# Altium footprint library openbook.PcbLib: 46 footprints (part 1 of 3)
Each footprint in its own frame and in the unit in brackets; x right, y up, seen from the top. Pads: shape width x height; smd on the part's side, far side on the other; paste and mask are expansions set on the pad; w line width, h text height; cw(c..) or ccw(c..) is an arc to the next point about the centre after c.
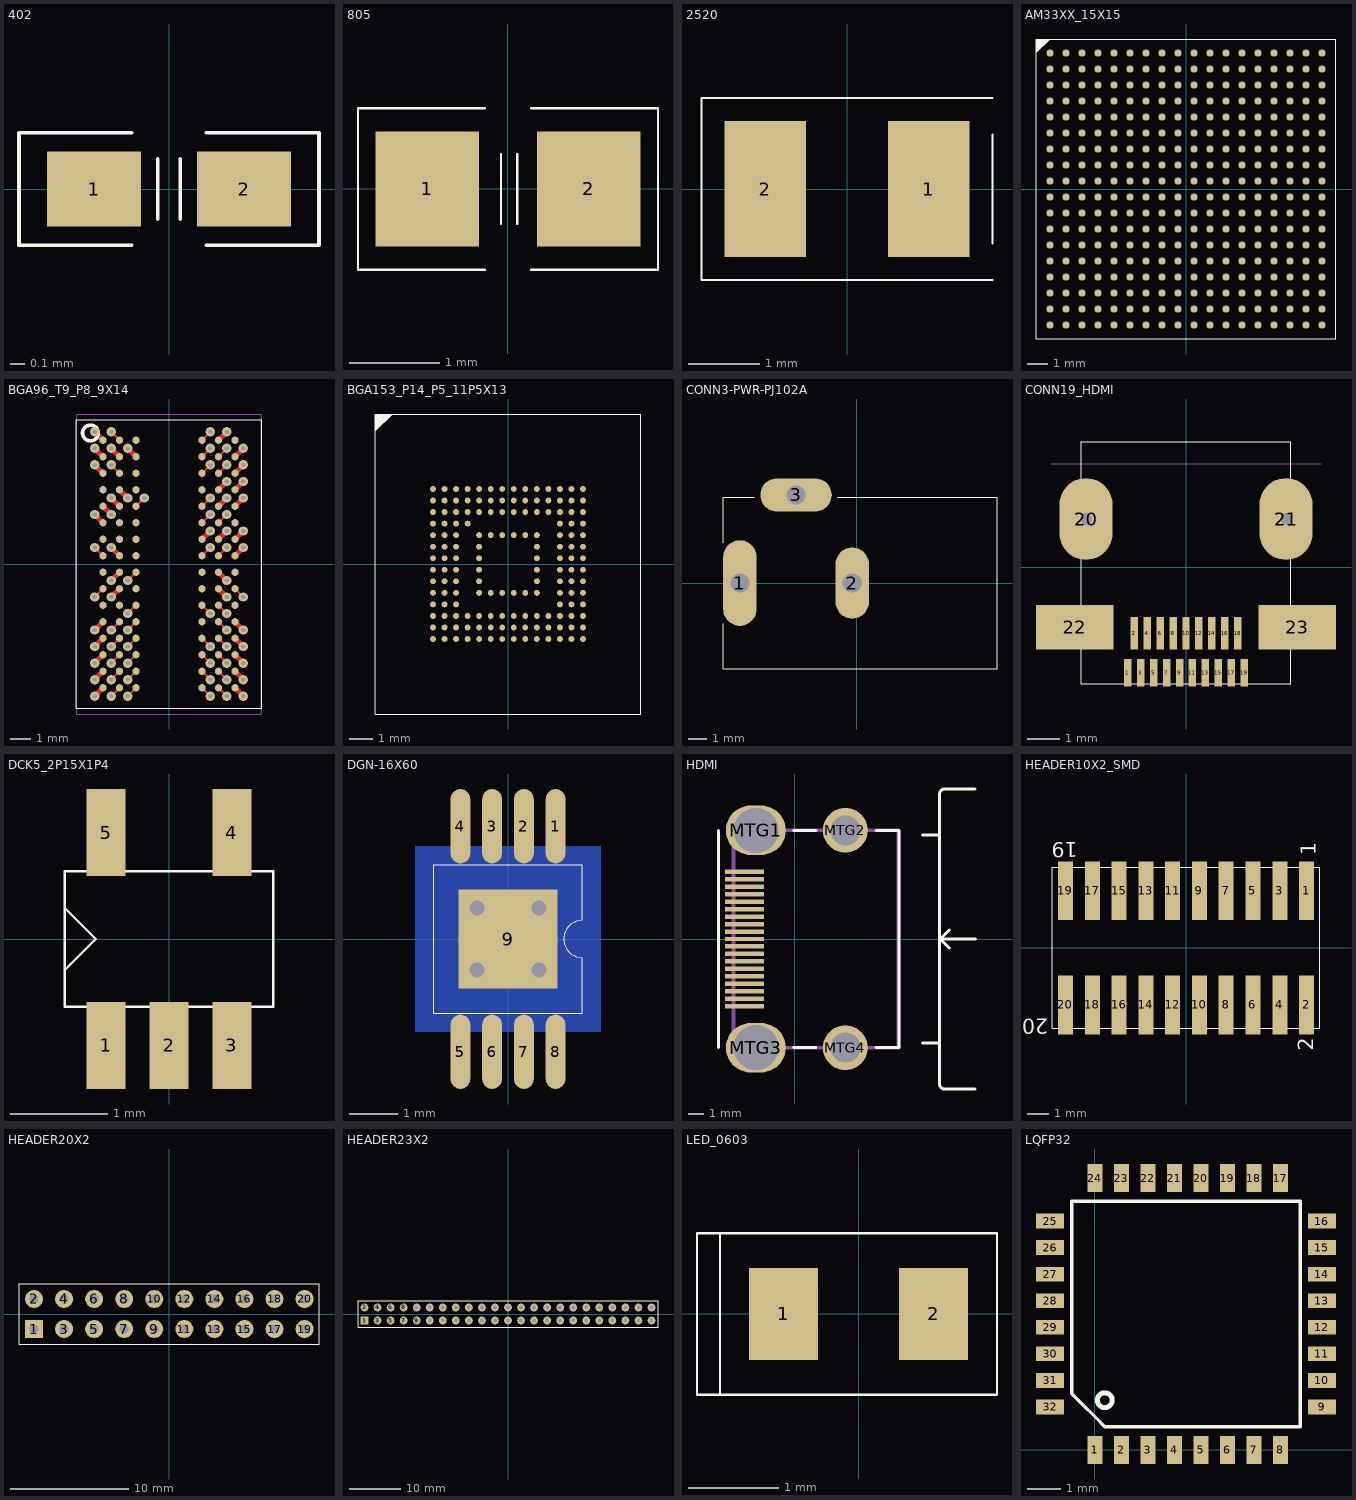
[diagram p0: the footprints below, top view; thin cyan lines are the x and y axes]

## 402 [mil]
pads (2):
  rect 25x20 smd mask+2: 1(-20,0) 2(20,0)
Top Overlay:
  lines w1: -10,-15 -40,-15 -40,15 -10,15 ; -3,-8 -3,8 ; 3,-8 3,8 ; 10,-15 40,-15 40,15 10,15

## 805 [mil]
pads (2):
  rect 45x50 smd mask+2: 1(-35,0) 2(35,0)
Top Overlay:
  lines w1: -10,-35 -65,-35 -65,35 -10,35 ; -3,-15 -3,15 ; 4,-15 4,15 ; 10,-35 65,-35 65,30 65,35 10,35

## 2520 [mil]
pads (2):
  rect 45x75 smd mask+2: 1(45,0) 2(-45,0)
Top Overlay:
  lines w1: 80,-50 -80,-50 -80,50 80,50 ; 80,-30 80,30

## AM33XX_15X15 [mil]
pads (324):
  round 14 smd mask+0: A1(-267.72,267.72) A2(-236.22,267.72) A3(-204.72,267.72) A4(-173.23,267.72) A5(-141.73,267.72) A6(-110.24,267.72) A7(-78.74,267.72) A8(-47.24,267.72) A9(-15.75,267.72) A10(15.75,267.72) A11(47.24,267.72) A12(78.74,267.72) A13(110.24,267.72) A14(141.73,267.72) A15(173.23,267.72) A16(204.72,267.72) A17(236.22,267.72) A18(267.72,267.72) B1(-267.72,236.22) B2(-236.22,236.22) B3(-204.72,236.22) B4(-173.23,236.22) B5(-141.73,236.22) B6(-110.24,236.22) B7(-78.74,236.22) B8(-47.24,236.22) B9(-15.75,236.22) B10(15.75,236.22) B11(47.24,236.22) B12(78.74,236.22) B13(110.24,236.22) B14(141.73,236.22) B15(173.23,236.22) B16(204.72,236.22) B17(236.22,236.22) B18(267.72,236.22) C1(-267.72,204.72) C2(-236.22,204.72) C3(-204.72,204.72) C4(-173.23,204.72) C5(-141.73,204.72) C6(-110.24,204.72) C7(-78.74,204.72) C8(-47.24,204.72) C9(-15.75,204.72) C10(15.75,204.72) C11(47.24,204.72) C12(78.74,204.72) C13(110.24,204.72) C14(141.73,204.72) C15(173.23,204.72) C16(204.72,204.72) C17(236.22,204.72) C18(267.72,204.72) D1(-267.72,173.23) D2(-236.22,173.23) D3(-204.72,173.23) D4(-173.23,173.23) D5(-141.73,173.23) D6(-110.24,173.23) D7(-78.74,173.23) D8(-47.24,173.23) D9(-15.75,173.23) D10(15.75,173.23) D11(47.24,173.23) D12(78.74,173.23) D13(110.24,173.23) D14(141.73,173.23) D15(173.23,173.23) D16(204.72,173.23) D17(236.22,173.23) D18(267.72,173.23) E1(-267.72,141.73) E2(-236.22,141.73) E3(-204.72,141.73) E4(-173.23,141.73) E5(-141.73,141.73) E6(-110.24,141.73) E7(-78.74,141.73) E8(-47.24,141.73) E9(-15.75,141.73) E10(15.75,141.73) E11(47.24,141.73) E12(78.74,141.73) E13(110.24,141.73) E14(141.73,141.73) E15(173.23,141.73) E16(204.72,141.73) E17(236.22,141.73) E18(267.72,141.73) F1(-267.72,110.24) F2(-236.22,110.24) F3(-204.72,110.24) F4(-173.23,110.24) F5(-141.73,110.24) F6(-110.24,110.24) F7(-78.74,110.24) F8(-47.24,110.24) F9(-15.75,110.24) F10(15.75,110.24) F11(47.24,110.24) F12(78.74,110.24) F13(110.24,110.24) F14(141.73,110.24) F15(173.23,110.24) F16(204.72,110.24) F17(236.22,110.24) F18(267.72,110.24) G1(-267.72,78.74) G2(-236.22,78.74) G3(-204.72,78.74) G4(-173.23,78.74) G5(-141.73,78.74) G6(-110.24,78.74) G7(-78.74,78.74) G8(-47.24,78.74) G9(-15.75,78.74) G10(15.75,78.74) G11(47.24,78.74) G12(78.74,78.74) G13(110.24,78.74) G14(141.73,78.74) G15(173.23,78.74) G16(204.72,78.74) G17(236.22,78.74) G18(267.72,78.74) H1(-267.72,47.24) H2(-236.22,47.24) H3(-204.72,47.24) H4(-173.23,47.24) H5(-141.73,47.24) H6(-110.24,47.24) H7(-78.74,47.24) H8(-47.24,47.24) H9(-15.75,47.24) H10(15.75,47.24) H11(47.24,47.24) H12(78.74,47.24) H13(110.24,47.24) H14(141.73,47.24) H15(173.23,47.24) H16(204.72,47.24) H17(236.22,47.24) H18(267.72,47.24) J1(-267.72,15.75) J2(-236.22,15.75) J3(-204.72,15.75) J4(-173.23,15.75) J5(-141.73,15.75) J6(-110.24,15.75) J7(-78.74,15.75) J8(-47.24,15.75) J9(-15.75,15.75) J10(15.75,15.75) J11(47.24,15.75) J12(78.74,15.75) J13(110.24,15.75) J14(141.73,15.75) J15(173.23,15.75) J16(204.72,15.75) J17(236.22,15.75) J18(267.72,15.75) K1(-267.72,-15.75) K2(-236.22,-15.75) K3(-204.72,-15.75) K4(-173.23,-15.75) K5(-141.73,-15.75) K6(-110.24,-15.75) K7(-78.74,-15.75) K8(-47.24,-15.75) K9(-15.75,-15.75) K10(15.75,-15.75) K11(47.24,-15.75) K12(78.74,-15.75) K13(110.24,-15.75) K14(141.73,-15.75) K15(173.23,-15.75) K16(204.72,-15.75) K17(236.22,-15.75) K18(267.72,-15.75) L1(-267.72,-47.24) L2(-236.22,-47.24) L3(-204.72,-47.24) L4(-173.23,-47.24) L5(-141.73,-47.24) L6(-110.24,-47.24) L7(-78.74,-47.24) L8(-47.24,-47.24) L9(-15.75,-47.24) L10(15.75,-47.24) L11(47.24,-47.24) L12(78.74,-47.24) L13(110.24,-47.24) L14(141.73,-47.24) L15(173.23,-47.24) L16(204.72,-47.24) L17(236.22,-47.24) L18(267.72,-47.24) M1(-267.72,-78.74) M2(-236.22,-78.74) M3(-204.72,-78.74) M4(-173.23,-78.74) M5(-141.73,-78.74) M6(-110.24,-78.74) M7(-78.74,-78.74) M8(-47.24,-78.74) M9(-15.75,-78.74) M10(15.75,-78.74) M11(47.24,-78.74) M12(78.74,-78.74) M13(110.24,-78.74) M14(141.73,-78.74) M15(173.23,-78.74) M16(204.72,-78.74) M17(236.22,-78.74) M18(267.72,-78.74) N1(-267.72,-110.24) N2(-236.22,-110.24) N3(-204.72,-110.24) N4(-173.23,-110.24) N5(-141.73,-110.24) N6(-110.24,-110.24) N7(-78.74,-110.24) N8(-47.24,-110.24) N9(-15.75,-110.24) N10(15.75,-110.24) N11(47.24,-110.24) N12(78.74,-110.24) N13(110.24,-110.24) N14(141.73,-110.24) N15(173.23,-110.24) N16(204.72,-110.24) N17(236.22,-110.24) N18(267.72,-110.24) P1(-267.72,-141.73) P2(-236.22,-141.73) P3(-204.72,-141.73) P4(-173.23,-141.73) P5(-141.73,-141.73) P6(-110.24,-141.73) P7(-78.74,-141.73) P8(-47.24,-141.73) P9(-15.75,-141.73) P10(15.75,-141.73) P11(47.24,-141.73) P12(78.74,-141.73) P13(110.24,-141.73) P14(141.73,-141.73) P15(173.23,-141.73) P16(204.72,-141.73) P17(236.22,-141.73) P18(267.72,-141.73) R1(-267.72,-173.23) R2(-236.22,-173.23) R3(-204.72,-173.23) R4(-173.23,-173.23) R5(-141.73,-173.23) R6(-110.24,-173.23) R7(-78.74,-173.23) R8(-47.24,-173.23) R9(-15.75,-173.23) R10(15.75,-173.23) R11(47.24,-173.23) R12(78.74,-173.23) R13(110.24,-173.23) R14(141.73,-173.23) R15(173.23,-173.23) R16(204.72,-173.23) R17(236.22,-173.23) R18(267.72,-173.23) T1(-267.72,-204.72) T2(-236.22,-204.72) T3(-204.72,-204.72) T4(-173.23,-204.72) T5(-141.73,-204.72) T6(-110.24,-204.72) T7(-78.74,-204.72) T8(-47.24,-204.72) T9(-15.75,-204.72) T10(15.75,-204.72) T11(47.24,-204.72) T12(78.74,-204.72) T13(110.24,-204.72) T14(141.73,-204.72) T15(173.23,-204.72) T16(204.72,-204.72) T17(236.22,-204.72) T18(267.72,-204.72) U1(-267.72,-236.22) U2(-236.22,-236.22) U3(-204.72,-236.22) U4(-173.23,-236.22) U5(-141.73,-236.22) U6(-110.24,-236.22) U7(-78.74,-236.22) U8(-47.24,-236.22) U9(-15.75,-236.22) U10(15.75,-236.22) U11(47.24,-236.22) U12(78.74,-236.22) U13(110.24,-236.22) U14(141.73,-236.22) U15(173.23,-236.22) U16(204.72,-236.22) U17(236.22,-236.22) U18(267.72,-236.22) V1(-267.72,-267.72) V2(-236.22,-267.72) V3(-204.72,-267.72) V4(-173.23,-267.72) V5(-141.73,-267.72) V6(-110.24,-267.72) V7(-78.74,-267.72) V8(-47.24,-267.72) V9(-15.75,-267.72) V10(15.75,-267.72) V11(47.24,-267.72) V12(78.74,-267.72) V13(110.24,-267.72) V14(141.73,-267.72) V15(173.23,-267.72) V16(204.72,-267.72) V17(236.22,-267.72) V18(267.72,-267.72)
Top Overlay:
  rectangle: -295.28,295.28 -267.72,295.28
  rectangle: -295.28,268.21 -294.78,295.28
  region: -295.28,268.21 -295.28,295.28 -267.72,295.28
  lines w0.98: -295.28,278.54 -295.28,280.51
  lines w1: -295.28,-295.28 -295.28,295.28 295.28,295.28 295.28,-295.28 -295.28,-295.28

## BGA96_T9_P8_9X14 [mil]
pads (96):
  round 14 smd mask+2: A1(-126,236.25) A2(-94.5,236.25) A3(-63,236.25) A7(63,236.25) A8(94.5,236.25) A9(126,236.25) B1(-126,204.75) B2(-94.5,204.75) B3(-63,204.75) B7(63,204.75) B8(94.5,204.75) B9(126,204.75) C1(-126,173.25) C2(-94.5,173.25) C3(-63,173.25) C7(63,173.25) C8(94.5,173.25) C9(126,173.25) D1(-126,141.75) D2(-94.5,141.75) D3(-63,141.75) D7(63,141.75) D8(94.5,141.75) D9(126,141.75) E1(-126,110.25) E2(-94.5,110.25) E3(-63,110.25) E7(63,110.25) E8(94.5,110.25) E9(126,110.25) F1(-126,78.75) F2(-94.5,78.75) F3(-63,78.75) F7(63,78.75) F8(94.5,78.75) F9(126,78.75) G1(-126,47.25) G2(-94.5,47.25) G3(-63,47.25) G7(63,47.25) G8(94.5,47.25) G9(126,47.25) H1(-126,15.75) H2(-94.5,15.75) H3(-63,15.75) H7(63,15.75) H8(94.5,15.75) H9(126,15.75) J1(-126,-15.75) J2(-94.5,-15.75) J3(-63,-15.75) J7(63,-15.75) J8(94.5,-15.75) J9(126,-15.75) K1(-126,-47.25) K2(-94.5,-47.25) K3(-63,-47.25) K7(63,-47.25) K8(94.5,-47.25) K9(126,-47.25) L1(-126,-78.75) L2(-94.5,-78.75) L3(-63,-78.75) L7(63,-78.75) L8(94.5,-78.75) L9(126,-78.75) M1(-126,-110.25) M2(-94.5,-110.25) M3(-63,-110.25) M7(63,-110.25) M8(94.5,-110.25) M9(126,-110.25) N1(-126,-141.75) N2(-94.5,-141.75) N3(-63,-141.75) N7(63,-141.75) N8(94.5,-141.75) N9(126,-141.75) P1(-126,-173.25) P2(-94.5,-173.25) P3(-63,-173.25) P7(63,-173.25) P8(94.5,-173.25) P9(126,-173.25) R1(-126,-204.75) R2(-94.5,-204.75) R3(-63,-204.75) R7(63,-204.75) R8(94.5,-204.75) R9(126,-204.75) T1(-126,-236.25) T2(-94.5,-236.25) T3(-63,-236.25) T7(63,-236.25) T8(94.5,-236.25) T9(126,-236.25)
via 110.25,-126 diameter 18 hole 8
via -141.75,31.5 diameter 18 hole 8
via -141.75,-157.5 diameter 18 hole 8
via -141.75,-220.5 diameter 18 hole 8
via 141.75,-157.5 diameter 18 hole 8
via 141.75,-220.5 diameter 18 hole 8
via -110.25,31.5 diameter 18 hole 8
via -110.25,-63 diameter 18 hole 8
via -141.75,94.5 diameter 18 hole 8
via 78.75,63 diameter 18 hole 8
via 110.25,-63 diameter 18 hole 8
via 141.75,31.5 diameter 18 hole 8
via -110.25,220.5 diameter 18 hole 8
via -78.75,126 diameter 18 hole 8
via -141.75,252 diameter 18 hole 8
via -141.75,189 diameter 18 hole 8
via 141.75,157.5 diameter 18 hole 8
via 141.75,126 diameter 18 hole 8
via 141.75,189 diameter 18 hole 8
via 110.25,252 diameter 18 hole 8
via 110.25,-94.5 diameter 18 hole 8
via 78.75,-252 diameter 18 hole 8
via -110.25,-252 diameter 18 hole 8
via -110.25,252 diameter 18 hole 8
via 78.75,252 diameter 18 hole 8
via 110.25,189 diameter 18 hole 8
via -110.25,189 diameter 18 hole 8
via 110.25,220.5 diameter 18 hole 8
via -47.25,126 diameter 18 hole 8
via 110.25,94.5 diameter 18 hole 8
via 78.75,94.5 diameter 18 hole 8
via 110.25,31.5 diameter 18 hole 8
via 78.75,31.5 diameter 18 hole 8
via 78.75,189 diameter 18 hole 8
via -78.75,-126 diameter 18 hole 8
via -110.25,-126 diameter 18 hole 8
via -141.75,-63 diameter 18 hole 8
via -141.75,-126 diameter 18 hole 8
via -141.75,-189 diameter 18 hole 8
via -141.75,-252 diameter 18 hole 8
via 141.75,-126 diameter 18 hole 8
via 141.75,-189 diameter 18 hole 8
via 141.75,-252 diameter 18 hole 8
via -110.25,94.5 diameter 18 hole 8
via -110.25,-31.5 diameter 18 hole 8
via 141.75,63 diameter 18 hole 8
via 110.25,63 diameter 18 hole 8
via 110.25,-31.5 diameter 18 hole 8
via -78.75,220.5 diameter 18 hole 8
via -141.75,220.5 diameter 18 hole 8
via -110.25,126 diameter 18 hole 8
via 141.75,220.5 diameter 18 hole 8
via 110.25,157.5 diameter 18 hole 8
via 110.25,126 diameter 18 hole 8
via -78.75,-252 diameter 18 hole 8
via 78.75,-157.5 diameter 18 hole 8
via 78.75,-220.5 diameter 18 hole 8
via 78.75,-94.5 diameter 18 hole 8
via -78.75,-220.5 diameter 18 hole 8
via 110.25,-252 diameter 18 hole 8
via -110.25,-220.5 diameter 18 hole 8
via 110.25,-220.5 diameter 18 hole 8
via -110.25,-189 diameter 18 hole 8
via 110.25,-189 diameter 18 hole 8
via -110.25,-157.5 diameter 18 hole 8
via -78.75,-189 diameter 18 hole 8
via 78.75,-189 diameter 18 hole 8
via 78.75,126 diameter 18 hole 8
via -78.75,-157.5 diameter 18 hole 8
via 110.25,-157.5 diameter 18 hole 8
via 78.75,220.5 diameter 18 hole 8
via -78.75,-94.5 diameter 18 hole 8
via -78.75,-31.5 diameter 18 hole 8
via 141.75,-63 diameter 18 hole 8
Top Layer:
  lines w4.75: -141.75,-63 -126,-47.25 ; -141.75,31.5 -126,15.75 ; -110.25,-252 -94.5,-236.25 ; -110.25,-220.5 -94.5,-204.75 ; -110.25,-189 -94.5,-173.25 ; -110.25,-157.5 -94.5,-141.75 ; -110.25,-126 -94.5,-110.25 ; -110.25,189 -94.5,173.25 ; -110.25,252 -94.5,236.25 ; -78.75,-252 -63,-236.25 ; -78.75,-220.5 -63,-204.75 ; -78.75,-189 -63,-173.25 ; -78.75,-157.5 -63,-141.75 ; -78.75,-126 -63,-110.25 ; -78.75,-94.5 -63,-78.75 ; -78.75,-31.5 -63,-15.75 ; -63,110.25 -47.25,126 ; 63,-236.25 78.75,-252 ; 63,-204.75 78.75,-220.5 ; 63,-173.25 78.75,-189 ; 63,-141.75 78.75,-157.5 ; 63,-78.75 78.75,-94.5 ; 63,15.75 78.75,31.5 ; 63,78.75 78.75,94.5 ; 63,110.25 78.75,126 ; 63,173.25 78.75,189 ; 63,204.75 78.75,220.5 ; 63,236.25 78.75,252 ; 94.5,-236.25 110.25,-252 ; 94.5,-204.75 110.25,-220.5 ; 94.5,-173.25 110.25,-189 ; 94.5,-141.75 110.25,-157.5 ; 94.5,-110.25 110.25,-126 ; 94.5,-78.75 110.25,-94.5 ; 94.5,15.75 110.25,31.5 ; 94.5,78.75 110.25,94.5 ; 94.5,173.25 110.25,189 ; 94.5,204.75 110.25,220.5 ; 126,-47.25 141.75,-63
  lines w10: -141.75,-252 -126,-236.25 ; -141.75,-220.5 -126,-204.75 ; -141.75,-189 -126,-173.25 ; -141.75,-157.5 -126,-141.75 ; -141.75,-126 -126,-110.25 ; -141.75,94.5 -126,78.75 ; -141.75,189 -126,173.25 ; -141.75,220.5 -126,204.75 ; -141.75,252 -126,236.25 ; -126,110.25 -110.25,94.5 ; -110.25,-63 -94.5,-47.25 ; -110.25,-31.5 -94.5,-15.75 ; -110.25,31.5 -94.5,15.75 ; -110.25,126 -94.5,110.25 ; -110.25,220.5 -94.5,204.75 ; -94.5,141.75 -78.75,126 ; -78.75,220.5 -63,204.75 ; 63,47.25 78.75,63 ; 94.5,-47.25 110.25,-63 ; 94.5,-15.75 110.25,-31.5 ; 94.5,47.25 110.25,63 ; 94.5,110.25 110.25,126 ; 94.5,141.75 110.25,157.5 ; 94.5,236.25 110.25,252 ; 126,-236.25 141.75,-252 ; 126,-204.75 141.75,-220.5 ; 126,-173.25 141.75,-189 ; 126,-141.75 141.75,-157.5 ; 126,-110.25 141.75,-126 ; 126,15.75 141.75,31.5 ; 126,47.25 141.75,63 ; 126,110.25 141.75,126 ; 126,141.75 141.75,157.5 ; 126,173.25 141.75,189 ; 126,204.75 141.75,220.5
Top Overlay:
  circle w7: c-150,250 r15
  lines w1: -177,-275.5 177,-275.5 177,275.5 -177,275.5 -177,-275.5
Mechanical 1:
  lines w1: -176,-286.25 176,-286.25 176,286.25 -176,286.25 -176,-286.25

## BGA153_P14_P5_11P5X13 [mil]
pads (153):
  round 10 smd mask+2: A1(-127.95,127.95) A2(-108.27,127.95) A3(-88.58,127.95) A4(-68.9,127.95) A5(-49.21,127.95) A6(-29.53,127.95) A7(-9.84,127.95) A8(9.84,127.95) A9(29.53,127.95) A10(49.21,127.95) A11(68.9,127.95) A12(88.58,127.95) A13(108.27,127.95) A14(127.95,127.95) B1(-127.95,108.27) B2(-108.27,108.27) B3(-88.58,108.27) B4(-68.9,108.27) B5(-49.21,108.27) B6(-29.53,108.27) B7(-9.84,108.27) B8(9.84,108.27) B9(29.53,108.27) B10(49.21,108.27) B11(68.9,108.27) B12(88.58,108.27) B13(108.27,108.27) B14(127.95,108.27) C1(-127.95,88.58) C2(-108.27,88.58) C3(-88.58,88.58) C4(-68.9,88.58) C5(-49.21,88.58) C6(-29.53,88.58) C7(-9.84,88.58) C8(9.84,88.58) C9(29.53,88.58) C10(49.21,88.58) C11(68.9,88.58) C12(88.58,88.58) C13(108.27,88.58) C14(127.95,88.58) D1(-127.95,68.9) D2(-108.27,68.9) D3(-88.58,68.9) D4(-68.9,68.9) D12(88.58,68.9) D13(108.27,68.9) D14(127.95,68.9) E1(-127.95,49.21) E2(-108.27,49.21) E3(-88.58,49.21) E5(-49.21,49.21) E6(-29.53,49.21) E7(-9.84,49.21) E8(9.84,49.21) E9(29.53,49.21) E10(49.21,49.21) E12(88.58,49.21) E13(108.27,49.21) E14(127.95,49.21) F1(-127.95,29.53) F2(-108.27,29.53) F3(-88.58,29.53) F5(-49.21,29.53) F10(49.21,29.53) F12(88.58,29.53) F13(108.27,29.53) F14(127.95,29.53) G1(-127.95,9.84) G2(-108.27,9.84) G3(-88.58,9.84) G5(-49.21,9.84) G10(49.21,9.84) G12(88.58,9.84) G13(108.27,9.84) G14(127.95,9.84) H1(-127.95,-9.84) H2(-108.27,-9.84) H3(-88.58,-9.84) H5(-49.21,-9.84) H10(49.21,-9.84) H12(88.58,-9.84) H13(108.27,-9.84) H14(127.95,-9.84) J1(-127.95,-29.53) J2(-108.27,-29.53) J3(-88.58,-29.53) J5(-49.21,-29.53) J10(49.21,-29.53) J12(88.58,-29.53) J13(108.27,-29.53) J14(127.95,-29.53) K1(-127.95,-49.21) K2(-108.27,-49.21) K3(-88.58,-49.21) K5(-49.21,-49.21) K6(-29.53,-49.21) K7(-9.84,-49.21) K8(9.84,-49.21) K9(29.53,-49.21) K10(49.21,-49.21) K12(88.58,-49.21) K13(108.27,-49.21) K14(127.95,-49.21) L1(-127.95,-68.9) L2(-108.27,-68.9) L3(-88.58,-68.9) L12(88.58,-68.9) L13(108.27,-68.9) L14(127.95,-68.9) M1(-127.95,-88.58) M2(-108.27,-88.58) M3(-88.58,-88.58) M4(-68.9,-88.58) M5(-49.21,-88.58) M6(-29.53,-88.58) M7(-9.84,-88.58) M8(9.84,-88.58) M9(29.53,-88.58) M10(49.21,-88.58) M11(68.9,-88.58) M12(88.58,-88.58) M13(108.27,-88.58) M14(127.95,-88.58) N1(-127.95,-108.27) N2(-108.27,-108.27) N3(-88.58,-108.27) N4(-68.9,-108.27) N5(-49.21,-108.27) N6(-29.53,-108.27) N7(-9.84,-108.27) N8(9.84,-108.27) N9(29.53,-108.27) N10(49.21,-108.27) N11(68.9,-108.27) N12(88.58,-108.27) N13(108.27,-108.27) N14(127.95,-108.27) P1(-127.95,-127.95) P2(-108.27,-127.95) P3(-88.58,-127.95) P4(-68.9,-127.95) P5(-49.21,-127.95) P6(-29.53,-127.95) P7(-9.84,-127.95) P8(9.84,-127.95) P9(29.53,-127.95) P10(49.21,-127.95) P11(68.9,-127.95) P12(88.58,-127.95) P13(108.27,-127.95) P14(127.95,-127.95)
Top Overlay:
  pour cut-out: -196.85,255.91 -226.38,226.38 -226.38,255.91
  lines w1: -226.38,-255.91 -226.38,255.91 226.38,255.91 226.38,-255.91 -226.38,-255.91

## CONN3-PWR-PJ102A [mil]
pads (3):
  oval 70x180 hole 40 mask+2: 1(-245,0)
  oval 70x150 hole 40 mask+2: 2(-9,0)
  oval 150x70 hole 40 mask+2: 3(-127,185)
Top Overlay:
  lines w1: -280,-85 -280,-180 295,-180 295,180 -40,180 ; -280,85 -280,180 -215,180

## CONN19_HDMI [mm]
pads (23):
  rect 0.23x0.85 smd mask+0.051: 1(-1.8,-3.265) 3(-1.4,-3.265) 5(-1,-3.265) 7(-0.6,-3.265) 9(-0.2,-3.265) 11(0.2,-3.265) 13(0.6,-3.265) 15(1,-3.265) 17(1.4,-3.265) 19(1.8,-3.265)
  rect 0.23x1 smd mask+0.051: 2(-1.6,-2.04) 4(-1.2,-2.04) 6(-0.8,-2.04) 8(-0.4,-2.04) 10(0,-2.04) 12(0.4,-2.04) 14(0.8,-2.04) 16(1.2,-2.04) 18(1.6,-2.04)
  oval 1.651x2.54 hole 0.381 mask+0.051: 20(-3.1,1.5) 21(3.1,1.5)
  rect 2.4x1.38 smd mask+0.051: 22(-3.45,-1.86) 23(3.45,-1.86)
Top Overlay:
  lines w0.025: -3.25,-3.6 -3.25,3.9 3.25,3.9 3.25,-3.6 -3.25,-3.6
Mechanical 3:
  lines w0.025: -4.2,3.21 4.2,3.21

## DCK5_2P15X1P4 [mm]
pads (5):
  rect 0.4x0.9 smd mask+0.051: 1(-0.65,-1.1) 2(0,-1.1) 3(0.65,-1.1) 4(0.65,1.1) 5(-0.65,1.1)
Top Overlay:
  lines w0.025: -1.075,-0.318 -0.757,0 -1.075,0.318 ; -1.075,-0.7 1.075,-0.7 1.075,0.7 -1.075,0.7 -1.075,-0.7

## DGN-16X60 [mil]
pads (9):
  oval 16x60 smd mask+2: 1(38.4,91) 2(12.8,91) 3(-12.8,91) 4(-38.4,91) 5(-38.4,-91) 6(-12.8,-91) 7(12.8,-91) 8(38.4,-91)
  rect 80x80 smd mask+2: 9(0,0)
via 25,-25 diameter 22 hole 12
via -25,-25 diameter 22 hole 12
via -25,25 diameter 22 hole 12
via 25,25 diameter 22 hole 12
Bottom Layer:
  region: 75,-75 75,75 -75,75 -75,-75
Top Overlay:
  lines w1: -60,-60 60,-60 60,-15 cw(c60,0) 60,15 60,60 -60,60 -60,-60

## HDMI [mm]
pads (23):
  rect 2.6x0.3 smd mask+0.025: 1(-3.36,4.5) 2(-3.36,4) 3(-3.36,3.5) 4(-3.36,3) 5(-3.36,2.5) 6(-3.36,2) 7(-3.36,1.5) 8(-3.36,1) 9(-3.36,0.5) 10(-3.36,0) 11(-3.36,-0.5) 12(-3.36,-1) 13(-3.36,-1.5) 14(-3.36,-2) 15(-3.36,-2.5) 16(-3.36,-3) 17(-3.36,-3.5) 18(-3.36,-4) 19(-3.36,-4.5)
  oval 4x3.3 hole 3: MTG1(-2.6,7.25) MTG3(-2.6,-7.25)
  round 3 hole 2: MTG2(3.36,7.25) MTG4(3.36,-7.25)
Top Overlay:
  lines w0.2: -5.1,-7.25 -5.1,7.25 ; -0.1,-7.25 1.4,-7.25 ; -0.1,7.25 1.4,7.25 ; 5.4,-7.25 6.9,-7.25 6.95,-7.2 6.95,7.25 ; 5.4,7.25 6.9,7.25 ; 8.5,-6.95 9.65,-6.95 ; 8.5,6.95 9.65,6.95 ; 9.95,10 12,10 ; 10,10 ccw(c9.975,9.675) 9.65,9.7 9.65,-9.7 ccw(c9.975,-9.675) 10,-10 12,-10 ; 10.3,-0.6 9.7,0 ; 10.3,0.6 9.7,0 ; 12.05,0 9.7,0
Mechanical 1:
  text "plastic may go over the board edge" at -6.6,9.6 h0.5
  text "doesnt fit on one place. Bottom" at -6.5,10.8 h0.5
  text "NOTE: Holes are big and connector" at -6.5,12 h0.5
Mechanical 16:
  lines w0.254: -4.1,-7.25 6.9,-7.25 6.9,7.25 -4.1,7.25 -4.1,-7.25
Mechanical 29:
  text ".Designator" at 0.5,2.3 h1.52
3D body: height 6.28, standoff -2.1, extent -4.2,-7.5 7.95,7.5

## HEADER10X2_SMD [mil]
pads (20):
  rect 28x110 smd mask+2: 1(225,106.5) 2(225,-106.5) 3(175,106.5) 4(175,-106.5) 5(125,106.5) 6(125,-106.5) 7(75,106.5) 8(75,-106.5) 9(25,106.5) 10(25,-106.5) 11(-25,106.5) 12(-25,-106.5) 13(-75,106.5) 14(-75,-106.5) 15(-125,106.5) 16(-125,-106.5) 17(-175,106.5) 18(-175,-106.5) 19(-225,106.5) 20(-225,-106.5)
Top Overlay:
  lines w1: -250,-150 250,-150 250,150 -250,150 -250,-150
  text "1" at 242.5,172.5 h28
  text "2" at 237.5,-192.5 h28
  text "19" at -202.5,197.5 h28
  text "20" at -257.5,-132.5 h28

## HEADER20X2 [mil]
pads (20):
  rect 60x60 hole 30 mask+2: 1(-450,-50)
  round 60 hole 30 mask+2: 2(-450,50) 3(-350,-50) 4(-350,50) 5(-250,-50) 6(-250,50) 7(-150,-50) 8(-150,50) 9(-50,-50) 10(-50,50) 11(50,-50) 12(50,50) 13(150,-50) 14(150,50) 15(250,-50) 16(250,50) 17(350,-50) 18(350,50) 19(450,-50) 20(450,50)
Top Overlay:
  lines w0.98: -400,-100 498.03,-100 ; -400,100 498.03,100
  lines w1: -400,-100 -500,-100 -500,100 -400,100 ; 498.03,-100 498.03,100

## HEADER23X2 [mil]
pads (46):
  rect 60x60 hole 30 mask+2: 1(-1100,-50)
  round 60 hole 30 mask+2: 2(-1100,50) 3(-1000,-50) 4(-1000,50) 5(-900,-50) 6(-900,50) 7(-800,-50) 8(-800,50) 9(-700,-50) 10(-700,50) 11(-600,-50) 12(-600,50) 13(-500,-50) 14(-500,50) 15(-400,-50) 16(-400,50) 17(-300,-50) 18(-300,50) 19(-200,-50) 20(-200,50) 21(-100,-50) 22(-100,50) 23(0,-50) 24(0,50) 25(100,-50) 26(100,50) 27(200,-50) 28(200,50) 29(300,-50) 30(300,50) 31(400,-50) 32(400,50) 33(500,-50) 34(500,50) 35(600,-50) 36(600,50) 37(700,-50) 38(700,50) 39(800,-50) 40(800,50) 41(900,-50) 42(900,50) 43(1000,-50) 44(1000,50) 45(1100,-50) 46(1100,50)
Top Overlay:
  lines w1: -1150,-100 -1050,-100 1150,-100 1150,100 -1050,100 -1150,100 -1150,-100
Bottom Overlay:
  text ".Designator" at 1237.5,-25 h40

## LED_0603 [mil]
pads (2):
  rect 30x40 smd mask+2: 1(-32.5,0) 2(32.5,0)
Top Overlay:
  lines w1: -60,-35 -60,35 ; -60,-35 -70,-35 -70,35 -60,35 ; -60,-35 -60,35 ; -60,-35 60,-35 60,35 -60,35

## LQFP32 [mm]
pads (32):
  rect 0.45x0.85 smd: 1(0,0) 2(0.8,0) 3(1.6,0) 4(2.4,0) 5(3.2,0) 6(4,0) 7(4.8,0) 8(5.6,0) 17(5.6,8.2) 18(4.8,8.2) 19(4,8.2) 20(3.2,8.2) 21(2.4,8.2) 22(1.6,8.2) 23(0.8,8.2) 24(0,8.2)
  rect 0.85x0.45 smd: 9(6.85,1.3) 10(6.85,2.1) 11(6.85,2.9) 12(6.85,3.7) 13(6.85,4.5) 14(6.85,5.3) 15(6.85,6.1) 16(6.85,6.9) 25(-1.35,6.9) 26(-1.35,6.1) 27(-1.35,5.3) 28(-1.35,4.5) 29(-1.35,3.7) 30(-1.35,2.9) 31(-1.35,2.1) 32(-1.35,1.3)
Top Overlay:
  circle w0.15: c0.3,1.5 r0.224
  lines w0.1: -0.7,1.7 -0.7,7.5 6.2,7.5 6.2,0.7 0.3,0.7 0.05,0.95 -0.45,1.45 -0.7,1.7